# Altium schematic symbol library Schlib1.SchLib: 3 symbols
Pins are listed as number, name and electrical type; pins without a type are passive.

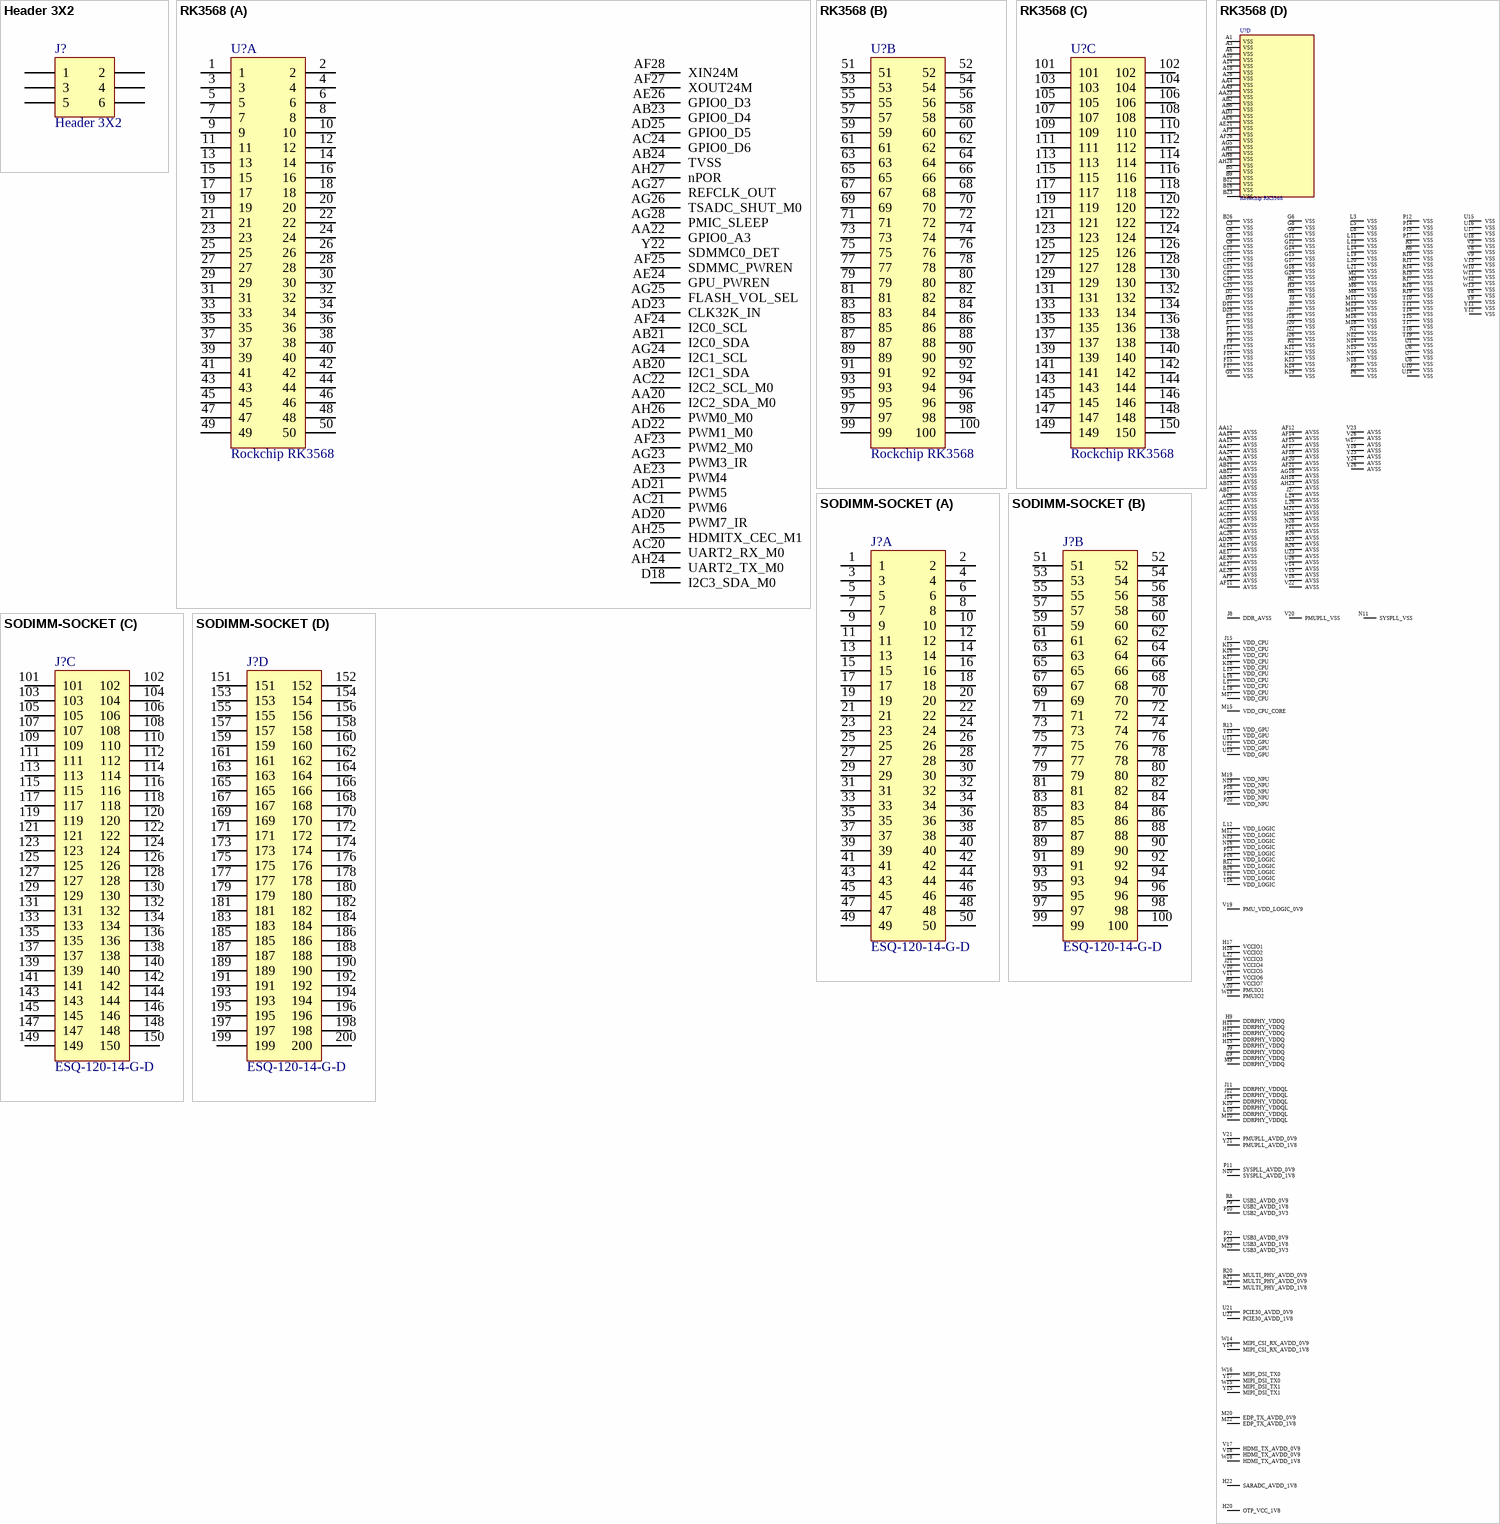
[diagram p0: symbols Header 3X2 to SODIMM-SOCKET]

## Header 3X2
designator J?
Header, 2-Pin, Dual row; Manufacturer: Harwin; Manufacturer Part Number 1: M20-9980346; Part Description: Connector Header Through Hole 6 position 0.100" (2.54mm); Contact Resistance: 25mR; Max Current Rating: 3A; Number of Positions: 6; Gender: Male; Connector Type: Male Pin; Insulation Resistance: 10GR; Pitch: 2.54mm; Row Spacing: 0.1inch; Supplier 1: Digi-Key; Supplier Part Number 1: 952-2121-ND; RoHS: Yes; Stock 1: 46604; Pricing 1: 1 = 0,24000, 10 = 0,22900, 100 = 0,15860, 500 = 0,13420, 1000 = 0,10980, 5000 = 0,09760, 10000 = 0,08845 (USD); Mount: Through Hole; Color: Black; Contact Material: Brass,Bronze; Housing Color: Black; Housing Material: Nylon; Contact Plating: Tin; Min Operating Temperature: -40°C; Max Operating Temperature: 105°C; Package Quantity: 1000; Packaging: Bag; Termination: Solder; Number of Rows: 2; Number of Contacts: 6; Orientation: Straight; Current Rating: 3A; Length: 7.62mm; Depth: 5.08mm; Contact Mating Length: 0.24inch; Radiation Hardening: No; REACH SVHC: No SVHC; ComponentLink1URL: http://uk.rs-online.com/webdocs/1406/0900766b81406898.pdf; ComponentLink1Description: http://uk.rs-online.com/webdocs/1406/0900766b81406898.pdf; ComponentLink2URL: https://www.verical.com/server-webapp/html/getDatasheet?partID=483857; ComponentLink2Description: https://www.verical.com/server-webapp/html/getDatasheet?partID=483857; ComponentLink3URL: http://www.farnell.com/cad/112195.pdf; ComponentLink3Description: http://www.farnell.com/cad/112195.pdf
footprint Header3x2
pins: 1, 2, 3, 4, 5, 6

## RK3568
designator U?, comment Rockchip RK3568
Rockchip RK3568 Quad-core Cortex-A55, 2.0GHz; Manufacturer: TE Connectivity; Manufacturer Part Number: 1717254-4; Connector Type: Receptacle; Number of Positions: 200; Number of Positions Loaded: All; Pitch: 0.100" (2.54mm); .Creator: MM; Supplier 1: Digi-Key; RoHS: RoHS Compliant; Category: Connectors, Interconnects; Stock 1: 51; Pricing 1: 1=7.42, 10=6.864, 50=6.1586, 100=5.7505, 250=5.00852, 500=4.823, 1000=4.6375, 2500=4.452 (USD); Packaging: Tape & Reel; Contact Type: Female Socket; Number of Rows: 2; Row Spacing: 0.100" (2.54mm); Mounting Type: Through Hole; Termination: Solder; Fastening Type: -; Features: -; Contact Finish: Gold; Contact Finish Thickness: 20µin (0.51µm); Color: Black; ComponentLink1URL: https://www.te.com/usa-en/product-1717254-4.html; ComponentLink1Description: DataSheet; Supplier Part Number 1: SAM8767-ND; .Checked PCB: MM; .Checked SCH: MM
footprint ESQ-120-14-G-D (Creator MM)
part A pins: 1, 2, 3, 4, 5, 6, 7, 8, 9, 10, 11, 12, 13, 14, 15, 16, 17, 18, 19, 20, 21, 22, 23, 24, 25, 26, 27, 28, 29, 30, 31, 32, 33, 34, 35, 36, 37, 38, 39, 40, 41, 42, 43, 44, 45, 46, 47, 48, 49, 50, AA20 I2C2_SDA_M0, AA22 GPIO0_A3, AB20 I2C1_SDA, AB21 I2C0_SDA, AB23 GPIO0_D4, AB24 TVSS, AC20 UART2_RX_M0, AC21 PWM6, AC22 I2C2_SCL_M0, AC24 GPIO0_D6, AD20 PWM7_IR, AD21 PWM5, AD22 PWM1_M0, AD23 CLK32K_IN, AD25 GPIO0_D5, AE23 PWM4, AE24 GPU_PWREN, AE26 GPIO0_D3, AF23 PWM2_M0, AF24 I2C0_SCL, AF25 SDMMC_PWREN, AF27 XOUT24M, AF28 XIN24M, AG23 PWM3_IR, AG24 I2C1_SCL, AG25 FLASH_VOL_SEL, AG26 TSADC_SHUT_M0, AG27 REFCLK_OUT, AG28 PMIC_SLEEP, AH24 UART2_TX_M0, AH25 HDMITX_CEC_M1, AH26 PWM0_M0, AH27 nPOR, D18 I2C3_SDA_M0, Y22 SDMMC0_DET
part B pins: 51, 52, 53, 54, 55, 56, 57, 58, 59, 60, 61, 62, 63, 64, 65, 66, 67, 68, 69, 70, 71, 72, 73, 74, 75, 76, 77, 78, 79, 80, 81, 82, 83, 84, 85, 86, 87, 88, 89, 90, 91, 92, 93, 94, 95, 96, 97, 98, 99, 100
part C pins: 101, 102, 103, 104, 105, 106, 107, 108, 109, 110, 111, 112, 113, 114, 115, 116, 117, 118, 119, 120, 121, 122, 123, 124, 125, 126, 127, 128, 129, 130, 131, 132, 133, 134, 135, 136, 137, 138, 139, 140, 141, 142, 143, 144, 145, 146, 147, 148, 149, 150
part D pins: A1 VSS (power), A3 VSS (power), A6 VSS (power), A10 VSS (power), A14 VSS (power), A18 VSS (power), A28 VSS (power), AA4 VSS (power), AA9 VSS (power), AA12 AVSS (power), AA14 AVSS (power), AA15 AVSS (power), AA17 AVSS (power), AA23 VSS (power), AA24 AVSS (power), AA26 AVSS (power), AB2 VSS (power), AB6 VSS (power), AB11 AVSS (power), AB12 AVSS (power), AB14 AVSS (power), AB15 AVSS (power), AB17 AVSS (power), AC9 AVSS (power), AC11 AVSS (power), AC12 AVSS (power), AC15 AVSS (power), AC18 AVSS (power), AC25 AVSS (power), AC26 AVSS (power), AD3 VSS (power), AD26 AVSS (power), AE6 VSS (power), AE14 AVSS (power), AE17 AVSS (power), AE20 AVSS (power), AE21 VSS (power), AE27 AVSS (power), AE28 AVSS (power), AF3 VSS (power), AF9 AVSS (power), AF11 AVSS (power), AF12 AVSS (power), AF14 AVSS (power), AF15 AVSS (power), AF17 AVSS (power), AF18 AVSS (power), AF20 AVSS (power), AF21 AVSS (power), AF26 VSS (power), AG5 VSS (power), AG18 AVSS (power), AH1 VSS (power), AH8 VSS (power), AH18 AVSS (power), AH23 AVSS (power), AH28 VSS (power), B5 VSS (power), B9 VSS (power), B12 VSS (power), B16 VSS (power), B23 VSS (power), B26 VSS (power), C3 VSS (power), C6 VSS (power), C8 VSS (power), C9 VSS (power), C11 VSS (power), C12 VSS (power), C14 VSS (power), C15 VSS (power), C17 VSS (power), C18 VSS (power), C25 VSS (power), D2 VSS (power), D3 VSS (power), D11 VSS (power), D28 VSS (power), E3 VSS (power), E7 VSS (power), F1 VSS (power), F3 VSS (power), F9 VSS (power), F12 VSS (power), F14 VSS (power), F15 VSS (power), F17 VSS (power), G5 VSS (power), G6 VSS (power), G8 VSS (power), G9 VSS (power), G11 VSS (power), G12 VSS (power), G14 VSS (power), G15 VSS (power), G17 VSS (power), G18 VSS (power), G24 VSS (power), H2 VSS (power), H3 VSS (power), H6 VSS (power), H9 DDRPHY_VDDQ (power), H11 DDRPHY_VDDQ (power), H12 DDRPHY_VDDQ (power), H14 DDRPHY_VDDQ (power), H15 DDRPHY_VDDQ (power), H17 VCCIO1 (power), H18 VCCIO2 (power), H20 OTP_VCC_1V8 (power), H22 SARADC_AVDD_1V8 (power), J3 VSS (power), J5 VSS (power), J8 DDR_AVSS (power), J9 DDRPHY_VDDQ (power), J11 DDRPHY_VDDQL (power), J12 DDRPHY_VDDQL (power), J14 DDRPHY_VDDQL (power), J15 VDD_CPU (power), J17 VSS (power), J18 VSS (power), J20 VSS (power), J21 VCCIO4 (power), J22 VSS (power), J26 VSS (power), J27 AVSS (power), K1 VSS (power), K10 DDRPHY_VDDQL (power), K11 VSS (power), K12 VSS (power), K13 VSS (power), K14 VSS (power), K15 VDD_CPU (power), K16 VDD_CPU (power), K17 VDD_CPU (power), K18 VDD_CPU (power), K19 VSS (power), L3 VSS (power), L5 VSS (power), L8 VSS (power), L9 DDRPHY_VDDQ (power), L10 DDRPHY_VDDQL (power), L11 VSS (power), L12 VDD_LOGIC (power), L13 VSS (power), L14 VSS (power), L15 VDD_CPU (power), L16 VDD_CPU (power), L17 VDD_CPU (power), L18 VDD_CPU (power), L19 VSS (power), L20 VSS (power), L21 VSS (power), L22 VCCIO3 (power), L24 AVSS (power), L26 AVSS (power), M2 VSS (power), M3 VSS (power), M6 VSS (power), M8 VSS (power), M9 DDRPHY_VDDQ (power), M10 DDRPHY_VDDQL (power), M11 VSS (power), M12 VDD_LOGIC (power), M13 VSS (power), M14 VSS (power), M15 VDD_CPU_CORE (power), M16 VSS (power), M17 VDD_CPU (power), M18 VSS (power), M19 VDD_NPU (power), M20 EDP_TX_AVDD_0V9 (power), M21 AVSS (power), M22 EDP_TX_AVDD_1V8 (power), M23 USB3_AVDD_3V3 (power), M26 AVSS (power), N1 VSS (power), N10 SYSPLL_AVDD_1V8 (power), N11 SYSPLL_VSS (power), N12 VSS (power), N13 VDD_LOGIC (power), N14 VSS (power), N15 VSS (power), N16 VDD_LOGIC (power), N17 VSS (power), N18 VSS (power), N19 VDD_NPU (power), N28 AVSS (power), P3 VSS (power), P6 VSS (power), P9 USB2_AVDD_1V8 (power), P10 USB2_AVDD_3V3 (power), P11 SYSPLL_AVDD_0V9 (power), P12 VSS (power), P13 VDD_LOGIC (power), P14 VSS (power), P15 VSS (power), P16 VDD_LOGIC (power), P17 VSS (power), P18 VDD_NPU (power), P19 VDD_NPU (power), P20 VDD_NPU (power), P21 AVSS (power), P22 USB3_AVDD_0V9 (power), P23 USB3_AVDD_1V8 (power), P26 AVSS (power), R3 VSS (power), R6 VSS (power), R8 USB2_AVDD_0V9 (power), R9 VCCIO7 (power), R10 VSS (power), R11 VSS (power), R12 VDD_LOGIC (power), R13 VDD_GPU (power), R14 VSS (power), R15 VSS (power), R16 VDD_LOGIC (power), R17 VSS (power), R18 VSS (power), R19 VSS (power), R20 MULTI_PHY_AVDD_0V9 (power), R21 MULTI_PHY_AVDD_0V9 (power), R22 MULTI_PHY_AVDD_1V8 (power), R23 AVSS (power), R26 AVSS (power), T10 VSS (power), T11 VSS (power), T12 VDD_LOGIC (power), T13 VDD_GPU (power), T14 VSS (power), T15 VSS (power), T16 VDD_LOGIC (power), T17 VSS (power), T18 VSS (power), T19 VSS (power), U1 VSS (power), U6 VSS (power), U7 VSS (power), U8 VSS (power), U10 VSS (power), U11 VDD_GPU (power), U12 VDD_GPU (power), U13 VDD_GPU (power), U14 VSS (power), U15 VSS (power), U16 VSS (power), U17 VSS (power), U18 VSS (power), U21 PCIE30_AVDD_0V9 (power), U22 PCIE30_AVDD_1V8 (power), U23 AVSS (power), U26 AVSS (power), V3 VSS (power), V8 VSS (power), V9 VSS (power), V10 VCCIO5 (power), V11 VCCIO6 (power), V13 VSS (power), V14 AVSS (power), V15 AVSS (power), V16 AVSS (power), V17 HDMI_TX_AVDD_0V9 (power), V18 HDMI_TX_AVDD_0V9 (power), V19 PMU_VDD_LOGIC_0V9 (power), V20 PMUPLL_VSS (power), V21 PMUPLL_AVDD_0V9 (power), V22 AVSS (power), V23 AVSS (power), V26 AVSS (power), W10 VSS (power), W11 VSS (power), W12 VSS (power), W13 VSS (power), W14 MIPI_CSI_RX_AVDD_0V9 (power), W15 MIPI_DSI_TX1 (power), W16 MIPI_DSI_TX0 (power), W17 AVSS (power), W18 HDMI_TX_AVDD_1V8 (power), W19 PMUIO2 (power), Y8 VSS (power), Y9 VSS (power), Y11 VSS (power), Y12 VSS (power), Y14 MIPI_CSI_RX_AVDD_1V8 (power), Y15 MIPI_DSI_TX1 (power), Y17 MIPI_DSI_TX0 (power), Y18 AVSS (power), Y20 PMUIO1 (power), Y21 PMUPLL_AVDD_1V8 (power), Y23 AVSS (power), Y24 AVSS (power), Y26 AVSS (power)

## SODIMM-SOCKET
designator J?, comment ESQ-120-14-G-D
CONN RCPT 40POS .100" DUAL GOLD; Manufacturer: TE Connectivity; Manufacturer Part Number: 1717254-4; Connector Type: Receptacle; Number of Positions: 200; Number of Positions Loaded: All; Pitch: 0.100" (2.54mm); .Creator: MM; Supplier 1: Digi-Key; RoHS: RoHS Compliant; Category: Connectors, Interconnects; Stock 1: 51; Pricing 1: 1=7.42, 10=6.864, 50=6.1586, 100=5.7505, 250=5.00852, 500=4.823, 1000=4.6375, 2500=4.452 (USD); Packaging: Tape & Reel; Contact Type: Female Socket; Number of Rows: 2; Row Spacing: 0.100" (2.54mm); Mounting Type: Through Hole; Termination: Solder; Fastening Type: -; Features: -; Contact Finish: Gold; Contact Finish Thickness: 20µin (0.51µm); Color: Black; ComponentLink1URL: https://www.te.com/usa-en/product-1717254-4.html; ComponentLink1Description: DataSheet; Supplier Part Number 1: SAM8767-ND; .Checked PCB: MM; .Checked SCH: MM
footprint ESQ-120-14-G-D (Creator MM)
part A pins: 1, 2, 3, 4, 5, 6, 7, 8, 9, 10, 11, 12, 13, 14, 15, 16, 17, 18, 19, 20, 21, 22, 23, 24, 25, 26, 27, 28, 29, 30, 31, 32, 33, 34, 35, 36, 37, 38, 39, 40, 41, 42, 43, 44, 45, 46, 47, 48, 49, 50
part B pins: 51, 52, 53, 54, 55, 56, 57, 58, 59, 60, 61, 62, 63, 64, 65, 66, 67, 68, 69, 70, 71, 72, 73, 74, 75, 76, 77, 78, 79, 80, 81, 82, 83, 84, 85, 86, 87, 88, 89, 90, 91, 92, 93, 94, 95, 96, 97, 98, 99, 100
part C pins: 101, 102, 103, 104, 105, 106, 107, 108, 109, 110, 111, 112, 113, 114, 115, 116, 117, 118, 119, 120, 121, 122, 123, 124, 125, 126, 127, 128, 129, 130, 131, 132, 133, 134, 135, 136, 137, 138, 139, 140, 141, 142, 143, 144, 145, 146, 147, 148, 149, 150
part D pins: 151, 152, 153, 154, 155, 156, 157, 158, 159, 160, 161, 162, 163, 164, 165, 166, 167, 168, 169, 170, 171, 172, 173, 174, 175, 176, 177, 178, 179, 180, 181, 182, 183, 184, 185, 186, 187, 188, 189, 190, 191, 192, 193, 194, 195, 196, 197, 198, 199, 200